# Altium integrated library TI Power Management Lighting and Display.IntLib: 745 symbols (part 38 of 48)
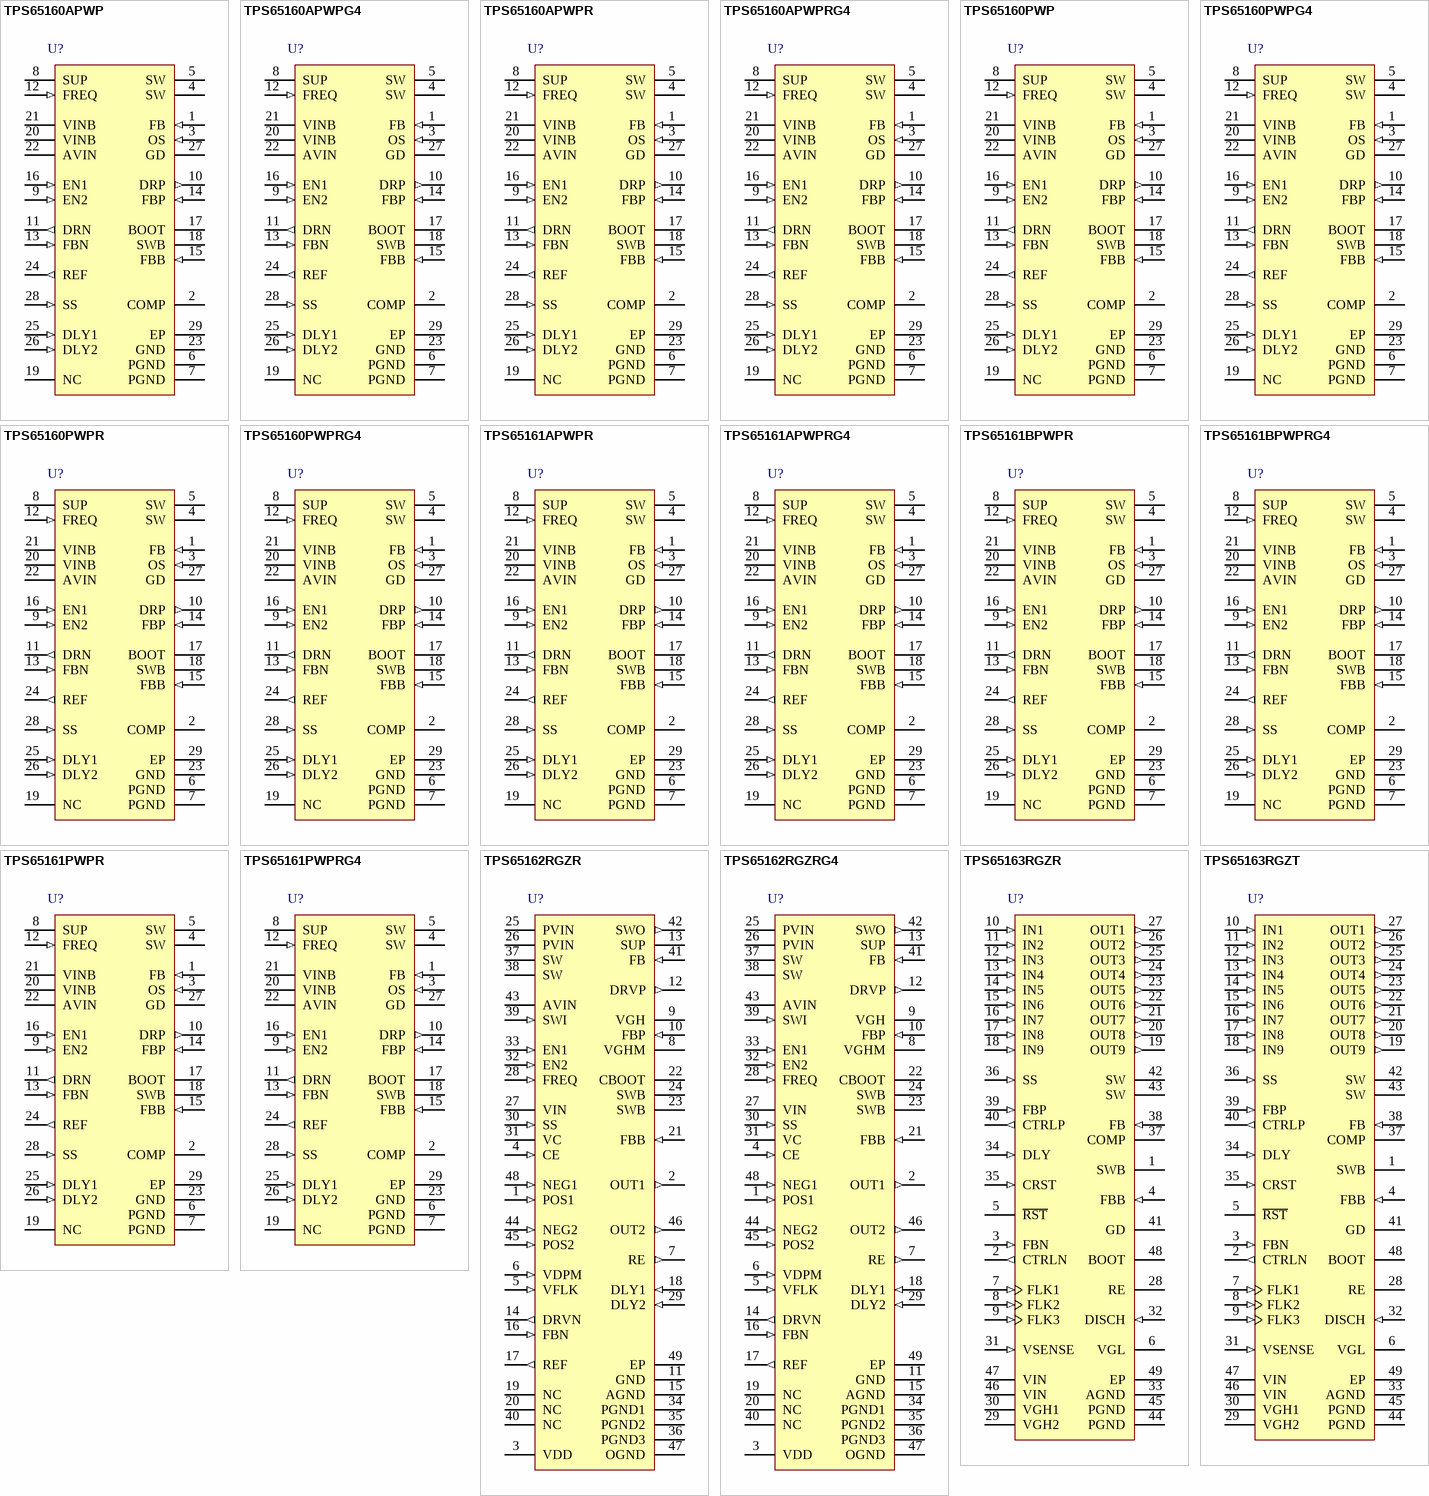
[diagram p68: symbols TPS65160APWP to TPS65163RGZT]

## TPS65160APWPG4
designator U?
4-Channel LCD Bias, 9.2 to 14 V, -40 to 85 degC, 28-pin SOP (PWP28), Green (RoHS & no Sb/Br); Manufacturer: Texas Instruments; PartNumber: TPS65160APWPG4; Rating: Catalog; SubFamily: LCD/OLED Display Bias Solutions; Switching Frequency(Typ)(kHz): 750, 500; Topology: Buck, Boost, Inverting Buck/Boost; Vin(Max)(V): 14; Vin(Min)(V): 9.2; DatasheetVersion: SLVS566B; PackageVersion: 4073225-6/I; PackageReference: PWP28-5720X1950TP; PackageDescription: 28-Pin Plastic Small Outline, Body 4.4 x 9.7 mm, Pitch 0.65 mm; Supplier 1: Digi-Key; Supplier Part Number 1: TPS65160APWPG4-ND; Supplier 2: Mouser; Supplier Part Number 2: 595-TPS65160APWPG4; Eco-Plan: Green (RoHS & no Sb/Br); Mounting Technology: Surface Mount; Code_JEDEC: MO-153; ComponentLink1Description: Manufacturer URL; ComponentLink1URL: http://www.ti.com/; ComponentLink2Description: Datasheet; ComponentLink2URL: http://www.ti.com/general/docs/lit/getliterature.tsp?genericPartNumber=TPS65160A&fileType=pdf; ComponentLink3Description: Package Specification; ComponentLink3URL: http://www.ti.com/litv/pdf/mpds373
footprint TI-PWP28-5720X1950TP_N (SOP, 28-Leads, Body 9.7x4.4mm, Pitch 0.65mm, Thermal Pad 5.72 x 1.95mm, IPC Medium Density)
footprint TI-PWP28-5720X1950TP_L (SOP, 28-Leads, Body 9.7x4.4mm, Pitch 0.65mm, Thermal Pad 5.72 x 1.95mm, IPC High Density)
footprint TI-PWP28-5720X1950TP_M (SOP, 28-Leads, Body 9.7x4.4mm, Pitch 0.65mm, Thermal Pad 5.72 x 1.95mm, IPC Low Density)
pins: 1 FB (in) "Feedback of the main boost converter generating Vsource (VS).", 2 COMP "This is the compensation pin for the main boost converter. A small capacitor and, if required, a resistor is connected to this pin.", 3 OS (in) "Output sense pin. The OS pin is connected to the internal rectifier switch and overvoltage protection comparator. This pin needs to be connected to the output of the boost converter and cannot be connected to any other (See Datasheet)", 4 SW (power) "Switch pin of the boost converter generating Vsource (VS).", 5 SW (power) "Switch pin of the boost converter generating Vsource (VS).", 6 PGND (power) "Power ground", 7 PGND (power) "Power ground", 8 SUP (power) "This is the supply pin of the positive charge pump driver and can be connected to the input supply VIN or the output of the main boost converter VS. This depends mainly on the desired output voltage VGH and numbers of charge (See Datasheet)", 9 EN2 (in) "The boost converter starts only with EN1 = high, after the step-down converter is enabled. EN2 is the enable pin of the boost converter and positive charge pump. When this pin is pulled high, the boost converter and positive (See Datasheet)", 10 DRP (out) "Drive pin of the positive charge pump.", 11 DRN (out) "Drive pin of the negative charge pump.", 12 FREQ (in) "Frequency adjust pin. This pin allows setting the switching frequency with a logic level to 500 kHz = low and 750 kHz = high.", 13 FBN (in) "Feedback pin of negative charge pump.", 14 FBP (in) "Feedback pin of positive charge pump.", 15 FBB (in) "Feedback pin of the buck converter", 16 EN1 (in) "This is the enable pin of the buck converter and negative charge pump. When this pin is pulled high, the buck converter starts up, and after a delay time set by DLY1, the negative charge pump comes up. This pin must be (See Datasheet)", 17 BOOT "N-channel MOSFET gate drive voltage for the buck converter. Connect a capacitor from the switch node SWB to this pin.", 18 SWB (power) "Switch pin of the buck converter", 19 NC "Not connected", 20 VINB (power) "Power input voltage pin for the buck converter.", 21 VINB (power) "Power input voltage pin for the buck converter.", 22 AVIN (power) "Analog input voltage of the device. This is the input for the analog circuits of the device and should be bypassed with a 1-uF ceramic capacitor for good filtering.", 23 GND (power) "Analog ground", 24 REF (out) "Internal reference output typically 1.213 V. A 220-nF capacitor needs to be connected to this pin.", 25 DLY1 (in) "Connecting a capacitor from this pin to GND allows the setting of the delay time between V(LOGIC) (step-down converter output high) to VGL during start-up.", 26 DLY2 (in) "Connecting a capacitor from this pin to GND allows the setting of the delay time between V(LOGIC) (step-down converter output high) to VS boost converter and positive charge-pump VGH during start-up.", 27 GD (hiz) "This is the gate drive pin which can be used to control an external MOSFET switch to provide input to output isolation of VS or VGH. See the circuit diagrams at the end of this data sheet. GD is an open-drain output and is (See Datasheet)", 28 SS (in) "This pin allows setting the soft-start time for the main boost converter VS. Typically a 22-nF capacitor needs to be connected to this pin to set the soft-start time.", 29 EP (power) "The thermally enhanced PowerPAD is connected to PGND."

## TPS65160APWPR
designator U?
4-Channel LCD Bias, 9.2 to 14 V, -40 to 85 degC, 28-pin SOP (PWP28), Green (RoHS & no Sb/Br); Manufacturer: Texas Instruments; PartNumber: TPS65160APWPR; Rating: Catalog; SubFamily: LCD/OLED Display Bias Solutions; Switching Frequency(Typ)(kHz): 750, 500; Topology: Buck, Boost, Inverting Buck/Boost; Vin(Max)(V): 14; Vin(Min)(V): 9.2; DatasheetVersion: SLVS566B; PackageVersion: 4073225-6/I; PackageReference: PWP28-5720X1950TP; PackageDescription: 28-Pin Plastic Small Outline, Body 4.4 x 9.7 mm, Pitch 0.65 mm; Supplier 1: Digi-Key; Supplier Part Number 1: 296-18305-2-ND; Supplier 2: Digi-Key; Supplier Part Number 2: 296-18305-1-ND; Supplier 3: Digi-Key; Supplier Part Number 3: 296-18305-6-ND; Supplier 4: Mouser; Supplier Part Number 4: 595-TPS65160APWPR; Eco-Plan: Green (RoHS & no Sb/Br); Mounting Technology: Surface Mount; Code_JEDEC: MO-153; ComponentLink1Description: Manufacturer URL; ComponentLink1URL: http://www.ti.com/; ComponentLink2Description: Datasheet; ComponentLink2URL: http://www.ti.com/general/docs/lit/getliterature.tsp?genericPartNumber=TPS65160A&fileType=pdf; ComponentLink3Description: Package Specification; ComponentLink3URL: http://www.ti.com/litv/pdf/mpds373
footprint TI-PWP28-5720X1950TP_N (SOP, 28-Leads, Body 9.7x4.4mm, Pitch 0.65mm, Thermal Pad 5.72 x 1.95mm, IPC Medium Density)
footprint TI-PWP28-5720X1950TP_L (SOP, 28-Leads, Body 9.7x4.4mm, Pitch 0.65mm, Thermal Pad 5.72 x 1.95mm, IPC High Density)
footprint TI-PWP28-5720X1950TP_M (SOP, 28-Leads, Body 9.7x4.4mm, Pitch 0.65mm, Thermal Pad 5.72 x 1.95mm, IPC Low Density)
pins: 1 FB (in) "Feedback of the main boost converter generating Vsource (VS).", 2 COMP "This is the compensation pin for the main boost converter. A small capacitor and, if required, a resistor is connected to this pin.", 3 OS (in) "Output sense pin. The OS pin is connected to the internal rectifier switch and overvoltage protection comparator. This pin needs to be connected to the output of the boost converter and cannot be connected to any other (See Datasheet)", 4 SW (power) "Switch pin of the boost converter generating Vsource (VS).", 5 SW (power) "Switch pin of the boost converter generating Vsource (VS).", 6 PGND (power) "Power ground", 7 PGND (power) "Power ground", 8 SUP (power) "This is the supply pin of the positive charge pump driver and can be connected to the input supply VIN or the output of the main boost converter VS. This depends mainly on the desired output voltage VGH and numbers of charge (See Datasheet)", 9 EN2 (in) "The boost converter starts only with EN1 = high, after the step-down converter is enabled. EN2 is the enable pin of the boost converter and positive charge pump. When this pin is pulled high, the boost converter and positive (See Datasheet)", 10 DRP (out) "Drive pin of the positive charge pump.", 11 DRN (out) "Drive pin of the negative charge pump.", 12 FREQ (in) "Frequency adjust pin. This pin allows setting the switching frequency with a logic level to 500 kHz = low and 750 kHz = high.", 13 FBN (in) "Feedback pin of negative charge pump.", 14 FBP (in) "Feedback pin of positive charge pump.", 15 FBB (in) "Feedback pin of the buck converter", 16 EN1 (in) "This is the enable pin of the buck converter and negative charge pump. When this pin is pulled high, the buck converter starts up, and after a delay time set by DLY1, the negative charge pump comes up. This pin must be (See Datasheet)", 17 BOOT "N-channel MOSFET gate drive voltage for the buck converter. Connect a capacitor from the switch node SWB to this pin.", 18 SWB (power) "Switch pin of the buck converter", 19 NC "Not connected", 20 VINB (power) "Power input voltage pin for the buck converter.", 21 VINB (power) "Power input voltage pin for the buck converter.", 22 AVIN (power) "Analog input voltage of the device. This is the input for the analog circuits of the device and should be bypassed with a 1-uF ceramic capacitor for good filtering.", 23 GND (power) "Analog ground", 24 REF (out) "Internal reference output typically 1.213 V. A 220-nF capacitor needs to be connected to this pin.", 25 DLY1 (in) "Connecting a capacitor from this pin to GND allows the setting of the delay time between V(LOGIC) (step-down converter output high) to VGL during start-up.", 26 DLY2 (in) "Connecting a capacitor from this pin to GND allows the setting of the delay time between V(LOGIC) (step-down converter output high) to VS boost converter and positive charge-pump VGH during start-up.", 27 GD (hiz) "This is the gate drive pin which can be used to control an external MOSFET switch to provide input to output isolation of VS or VGH. See the circuit diagrams at the end of this data sheet. GD is an open-drain output and is (See Datasheet)", 28 SS (in) "This pin allows setting the soft-start time for the main boost converter VS. Typically a 22-nF capacitor needs to be connected to this pin to set the soft-start time.", 29 EP (power) "The thermally enhanced PowerPAD is connected to PGND."

## TPS65160APWPRG4
designator U?
4-Channel LCD Bias, 9.2 to 14 V, -40 to 85 degC, 28-pin SOP (PWP28), Green (RoHS & no Sb/Br); Manufacturer: Texas Instruments; PartNumber: TPS65160APWPRG4; Rating: Catalog; SubFamily: LCD/OLED Display Bias Solutions; Switching Frequency(Typ)(kHz): 750, 500; Topology: Buck, Boost, Inverting Buck/Boost; Vin(Max)(V): 14; Vin(Min)(V): 9.2; DatasheetVersion: SLVS566B; PackageVersion: 4073225-6/I; PackageReference: PWP28-5720X1950TP; PackageDescription: 28-Pin Plastic Small Outline, Body 4.4 x 9.7 mm, Pitch 0.65 mm; Supplier 1: Digi-Key; Supplier Part Number 1: TPS65160APWPRG4-ND; Supplier 2: Mouser; Supplier Part Number 2: 595-TPS65160APWPRG4; Eco-Plan: Green (RoHS & no Sb/Br); Mounting Technology: Surface Mount; Code_JEDEC: MO-153; ComponentLink1Description: Manufacturer URL; ComponentLink1URL: http://www.ti.com/; ComponentLink2Description: Datasheet; ComponentLink2URL: http://www.ti.com/general/docs/lit/getliterature.tsp?genericPartNumber=TPS65160A&fileType=pdf; ComponentLink3Description: Package Specification; ComponentLink3URL: http://www.ti.com/litv/pdf/mpds373
footprint TI-PWP28-5720X1950TP_N (SOP, 28-Leads, Body 9.7x4.4mm, Pitch 0.65mm, Thermal Pad 5.72 x 1.95mm, IPC Medium Density)
footprint TI-PWP28-5720X1950TP_L (SOP, 28-Leads, Body 9.7x4.4mm, Pitch 0.65mm, Thermal Pad 5.72 x 1.95mm, IPC High Density)
footprint TI-PWP28-5720X1950TP_M (SOP, 28-Leads, Body 9.7x4.4mm, Pitch 0.65mm, Thermal Pad 5.72 x 1.95mm, IPC Low Density)
pins: 1 FB (in) "Feedback of the main boost converter generating Vsource (VS).", 2 COMP "This is the compensation pin for the main boost converter. A small capacitor and, if required, a resistor is connected to this pin.", 3 OS (in) "Output sense pin. The OS pin is connected to the internal rectifier switch and overvoltage protection comparator. This pin needs to be connected to the output of the boost converter and cannot be connected to any other (See Datasheet)", 4 SW (power) "Switch pin of the boost converter generating Vsource (VS).", 5 SW (power) "Switch pin of the boost converter generating Vsource (VS).", 6 PGND (power) "Power ground", 7 PGND (power) "Power ground", 8 SUP (power) "This is the supply pin of the positive charge pump driver and can be connected to the input supply VIN or the output of the main boost converter VS. This depends mainly on the desired output voltage VGH and numbers of charge (See Datasheet)", 9 EN2 (in) "The boost converter starts only with EN1 = high, after the step-down converter is enabled. EN2 is the enable pin of the boost converter and positive charge pump. When this pin is pulled high, the boost converter and positive (See Datasheet)", 10 DRP (out) "Drive pin of the positive charge pump.", 11 DRN (out) "Drive pin of the negative charge pump.", 12 FREQ (in) "Frequency adjust pin. This pin allows setting the switching frequency with a logic level to 500 kHz = low and 750 kHz = high.", 13 FBN (in) "Feedback pin of negative charge pump.", 14 FBP (in) "Feedback pin of positive charge pump.", 15 FBB (in) "Feedback pin of the buck converter", 16 EN1 (in) "This is the enable pin of the buck converter and negative charge pump. When this pin is pulled high, the buck converter starts up, and after a delay time set by DLY1, the negative charge pump comes up. This pin must be (See Datasheet)", 17 BOOT "N-channel MOSFET gate drive voltage for the buck converter. Connect a capacitor from the switch node SWB to this pin.", 18 SWB (power) "Switch pin of the buck converter", 19 NC "Not connected", 20 VINB (power) "Power input voltage pin for the buck converter.", 21 VINB (power) "Power input voltage pin for the buck converter.", 22 AVIN (power) "Analog input voltage of the device. This is the input for the analog circuits of the device and should be bypassed with a 1-uF ceramic capacitor for good filtering.", 23 GND (power) "Analog ground", 24 REF (out) "Internal reference output typically 1.213 V. A 220-nF capacitor needs to be connected to this pin.", 25 DLY1 (in) "Connecting a capacitor from this pin to GND allows the setting of the delay time between V(LOGIC) (step-down converter output high) to VGL during start-up.", 26 DLY2 (in) "Connecting a capacitor from this pin to GND allows the setting of the delay time between V(LOGIC) (step-down converter output high) to VS boost converter and positive charge-pump VGH during start-up.", 27 GD (hiz) "This is the gate drive pin which can be used to control an external MOSFET switch to provide input to output isolation of VS or VGH. See the circuit diagrams at the end of this data sheet. GD is an open-drain output and is (See Datasheet)", 28 SS (in) "This pin allows setting the soft-start time for the main boost converter VS. Typically a 22-nF capacitor needs to be connected to this pin to set the soft-start time.", 29 EP (power) "The thermally enhanced PowerPAD is connected to PGND."

## TPS65160PWP
designator U?
4-Channel LCD Bias, 8 to 14 V, -40 to 85 degC, 28-pin SOP (PWP28), Green (RoHS & no Sb/Br); Manufacturer: Texas Instruments; PartNumber: TPS65160PWP; Rating: Catalog; SubFamily: LCD/OLED Display Bias Solutions; Switching Frequency(Typ)(kHz): 750, 500; Topology: Buck, Boost, Inverting Buck/Boost; Vin(Max)(V): 14; Vin(Min)(V): 8; DatasheetVersion: SLVS566B; PackageVersion: 4073225-6/I; PackageReference: PWP28-5720X1950TP; PackageDescription: 28-Pin Plastic Small Outline, Body 4.4 x 9.7 mm, Pitch 0.65 mm; Supplier 1: Digi-Key; Supplier Part Number 1: 296-34638-5-ND; Supplier 2: Newark; Supplier Part Number 2: 28K5738; Supplier 3: Mouser; Supplier Part Number 3: 595-TPS65160PWP; Eco-Plan: Green (RoHS & no Sb/Br); Mounting Technology: Surface Mount; Code_JEDEC: MO-153; ComponentLink1Description: Manufacturer URL; ComponentLink1URL: http://www.ti.com/; ComponentLink2Description: Datasheet; ComponentLink2URL: http://www.ti.com/general/docs/lit/getliterature.tsp?genericPartNumber=TPS65160&fileType=pdf; ComponentLink3Description: Package Specification; ComponentLink3URL: http://www.ti.com/litv/pdf/mpds373
footprint TI-PWP28-5720X1950TP_N (SOP, 28-Leads, Body 9.7x4.4mm, Pitch 0.65mm, Thermal Pad 5.72 x 1.95mm, IPC Medium Density)
footprint TI-PWP28-5720X1950TP_L (SOP, 28-Leads, Body 9.7x4.4mm, Pitch 0.65mm, Thermal Pad 5.72 x 1.95mm, IPC High Density)
footprint TI-PWP28-5720X1950TP_M (SOP, 28-Leads, Body 9.7x4.4mm, Pitch 0.65mm, Thermal Pad 5.72 x 1.95mm, IPC Low Density)
pins: 1 FB (in) "Feedback of the main boost converter generating Vsource (VS).", 2 COMP "This is the compensation pin for the main boost converter. A small capacitor and, if required, a resistor is connected to this pin.", 3 OS (in) "Output sense pin. The OS pin is connected to the internal rectifier switch and overvoltage protection comparator. This pin needs to be connected to the output of the boost converter and cannot be connected to any other (See Datasheet)", 4 SW (power) "Switch pin of the boost converter generating Vsource (VS).", 5 SW (power) "Switch pin of the boost converter generating Vsource (VS).", 6 PGND (power) "Power ground", 7 PGND (power) "Power ground", 8 SUP (power) "This is the supply pin of the positive charge pump driver and can be connected to the input supply VIN or the output of the main boost converter VS. This depends mainly on the desired output voltage VGH and numbers of charge (See Datasheet)", 9 EN2 (in) "The boost converter starts only with EN1 = high, after the step-down converter is enabled. EN2 is the enable pin of the boost converter and positive charge pump. When this pin is pulled high, the boost converter and positive (See Datasheet)", 10 DRP (out) "Drive pin of the positive charge pump.", 11 DRN (out) "Drive pin of the negative charge pump.", 12 FREQ (in) "Frequency adjust pin. This pin allows setting the switching frequency with a logic level to 500 kHz = low and 750 kHz = high.", 13 FBN (in) "Feedback pin of negative charge pump.", 14 FBP (in) "Feedback pin of positive charge pump.", 15 FBB (in) "Feedback pin of the buck converter", 16 EN1 (in) "This is the enable pin of the buck converter and negative charge pump. When this pin is pulled high, the buck converter starts up, and after a delay time set by DLY1, the negative charge pump comes up. This pin must be (See Datasheet)", 17 BOOT "N-channel MOSFET gate drive voltage for the buck converter. Connect a capacitor from the switch node SWB to this pin.", 18 SWB (power) "Switch pin of the buck converter", 19 NC "Not connected", 20 VINB (power) "Power input voltage pin for the buck converter.", 21 VINB (power) "Power input voltage pin for the buck converter.", 22 AVIN (power) "Analog input voltage of the device. This is the input for the analog circuits of the device and should be bypassed with a 1-uF ceramic capacitor for good filtering.", 23 GND (power) "Analog ground", 24 REF (out) "Internal reference output typically 1.213 V. A 220-nF capacitor needs to be connected to this pin.", 25 DLY1 (in) "Connecting a capacitor from this pin to GND allows the setting of the delay time between V(LOGIC) (step-down converter output high) to VGL during start-up.", 26 DLY2 (in) "Connecting a capacitor from this pin to GND allows the setting of the delay time between V(LOGIC) (step-down converter output high) to VS boost converter and positive charge-pump VGH during start-up.", 27 GD (hiz) "This is the gate drive pin which can be used to control an external MOSFET switch to provide input to output isolation of VS or VGH. See the circuit diagrams at the end of this data sheet. GD is an open-drain output and is (See Datasheet)", 28 SS (in) "This pin allows setting the soft-start time for the main boost converter VS. Typically a 22-nF capacitor needs to be connected to this pin to set the soft-start time.", 29 EP (power) "The thermally enhanced PowerPAD is connected to PGND."

## TPS65160PWPG4
designator U?
4-Channel LCD Bias, 8 to 14 V, -40 to 85 degC, 28-pin SOP (PWP28), Green (RoHS & no Sb/Br); Manufacturer: Texas Instruments; PartNumber: TPS65160PWPG4; Rating: Catalog; SubFamily: LCD/OLED Display Bias Solutions; Switching Frequency(Typ)(kHz): 750, 500; Topology: Buck, Boost, Inverting Buck/Boost; Vin(Max)(V): 14; Vin(Min)(V): 8; DatasheetVersion: SLVS566B; PackageVersion: 4073225-6/I; PackageReference: PWP28-5720X1950TP; PackageDescription: 28-Pin Plastic Small Outline, Body 4.4 x 9.7 mm, Pitch 0.65 mm; Supplier 1: Digi-Key; Supplier Part Number 1: TPS65160PWPG4-ND; Supplier 2: Newark; Supplier Part Number 2: 33K7648; Supplier 3: Mouser; Supplier Part Number 3: 595-TPS65160PWPG4; Eco-Plan: Green (RoHS & no Sb/Br); Mounting Technology: Surface Mount; Code_JEDEC: MO-153; ComponentLink1Description: Manufacturer URL; ComponentLink1URL: http://www.ti.com/; ComponentLink2Description: Datasheet; ComponentLink2URL: http://www.ti.com/general/docs/lit/getliterature.tsp?genericPartNumber=TPS65160&fileType=pdf; ComponentLink3Description: Package Specification; ComponentLink3URL: http://www.ti.com/litv/pdf/mpds373
footprint TI-PWP28-5720X1950TP_N (SOP, 28-Leads, Body 9.7x4.4mm, Pitch 0.65mm, Thermal Pad 5.72 x 1.95mm, IPC Medium Density)
footprint TI-PWP28-5720X1950TP_L (SOP, 28-Leads, Body 9.7x4.4mm, Pitch 0.65mm, Thermal Pad 5.72 x 1.95mm, IPC High Density)
footprint TI-PWP28-5720X1950TP_M (SOP, 28-Leads, Body 9.7x4.4mm, Pitch 0.65mm, Thermal Pad 5.72 x 1.95mm, IPC Low Density)
pins: 1 FB (in) "Feedback of the main boost converter generating Vsource (VS).", 2 COMP "This is the compensation pin for the main boost converter. A small capacitor and, if required, a resistor is connected to this pin.", 3 OS (in) "Output sense pin. The OS pin is connected to the internal rectifier switch and overvoltage protection comparator. This pin needs to be connected to the output of the boost converter and cannot be connected to any other (See Datasheet)", 4 SW (power) "Switch pin of the boost converter generating Vsource (VS).", 5 SW (power) "Switch pin of the boost converter generating Vsource (VS).", 6 PGND (power) "Power ground", 7 PGND (power) "Power ground", 8 SUP (power) "This is the supply pin of the positive charge pump driver and can be connected to the input supply VIN or the output of the main boost converter VS. This depends mainly on the desired output voltage VGH and numbers of charge (See Datasheet)", 9 EN2 (in) "The boost converter starts only with EN1 = high, after the step-down converter is enabled. EN2 is the enable pin of the boost converter and positive charge pump. When this pin is pulled high, the boost converter and positive (See Datasheet)", 10 DRP (out) "Drive pin of the positive charge pump.", 11 DRN (out) "Drive pin of the negative charge pump.", 12 FREQ (in) "Frequency adjust pin. This pin allows setting the switching frequency with a logic level to 500 kHz = low and 750 kHz = high.", 13 FBN (in) "Feedback pin of negative charge pump.", 14 FBP (in) "Feedback pin of positive charge pump.", 15 FBB (in) "Feedback pin of the buck converter", 16 EN1 (in) "This is the enable pin of the buck converter and negative charge pump. When this pin is pulled high, the buck converter starts up, and after a delay time set by DLY1, the negative charge pump comes up. This pin must be (See Datasheet)", 17 BOOT "N-channel MOSFET gate drive voltage for the buck converter. Connect a capacitor from the switch node SWB to this pin.", 18 SWB (power) "Switch pin of the buck converter", 19 NC "Not connected", 20 VINB (power) "Power input voltage pin for the buck converter.", 21 VINB (power) "Power input voltage pin for the buck converter.", 22 AVIN (power) "Analog input voltage of the device. This is the input for the analog circuits of the device and should be bypassed with a 1-uF ceramic capacitor for good filtering.", 23 GND (power) "Analog ground", 24 REF (out) "Internal reference output typically 1.213 V. A 220-nF capacitor needs to be connected to this pin.", 25 DLY1 (in) "Connecting a capacitor from this pin to GND allows the setting of the delay time between V(LOGIC) (step-down converter output high) to VGL during start-up.", 26 DLY2 (in) "Connecting a capacitor from this pin to GND allows the setting of the delay time between V(LOGIC) (step-down converter output high) to VS boost converter and positive charge-pump VGH during start-up.", 27 GD (hiz) "This is the gate drive pin which can be used to control an external MOSFET switch to provide input to output isolation of VS or VGH. See the circuit diagrams at the end of this data sheet. GD is an open-drain output and is (See Datasheet)", 28 SS (in) "This pin allows setting the soft-start time for the main boost converter VS. Typically a 22-nF capacitor needs to be connected to this pin to set the soft-start time.", 29 EP (power) "The thermally enhanced PowerPAD is connected to PGND."

## TPS65160PWPR
designator U?
4-Channel LCD Bias, 8 to 14 V, -40 to 85 degC, 28-pin SOP (PWP28), Green (RoHS & no Sb/Br); Manufacturer: Texas Instruments; PartNumber: TPS65160PWPR; Rating: Catalog; SubFamily: LCD/OLED Display Bias Solutions; Switching Frequency(Typ)(kHz): 750, 500; Topology: Buck, Boost, Inverting Buck/Boost; Vin(Max)(V): 14; Vin(Min)(V): 8; DatasheetVersion: SLVS566B; PackageVersion: 4073225-6/I; PackageReference: PWP28-5720X1950TP; PackageDescription: 28-Pin Plastic Small Outline, Body 4.4 x 9.7 mm, Pitch 0.65 mm; Supplier 1: Digi-Key; Supplier Part Number 1: 296-17905-2-ND; Supplier 2: Digi-Key; Supplier Part Number 2: 296-17905-1-ND; Supplier 3: Digi-Key; Supplier Part Number 3: 296-17905-6-ND; Supplier 4: Mouser; Supplier Part Number 4: 595-TPS65160PWPR; Eco-Plan: Green (RoHS & no Sb/Br); Mounting Technology: Surface Mount; Code_JEDEC: MO-153; ComponentLink1Description: Manufacturer URL; ComponentLink1URL: http://www.ti.com/; ComponentLink2Description: Datasheet; ComponentLink2URL: http://www.ti.com/general/docs/lit/getliterature.tsp?genericPartNumber=TPS65160&fileType=pdf; ComponentLink3Description: Package Specification; ComponentLink3URL: http://www.ti.com/litv/pdf/mpds373
footprint TI-PWP28-5720X1950TP_N (SOP, 28-Leads, Body 9.7x4.4mm, Pitch 0.65mm, Thermal Pad 5.72 x 1.95mm, IPC Medium Density)
footprint TI-PWP28-5720X1950TP_L (SOP, 28-Leads, Body 9.7x4.4mm, Pitch 0.65mm, Thermal Pad 5.72 x 1.95mm, IPC High Density)
footprint TI-PWP28-5720X1950TP_M (SOP, 28-Leads, Body 9.7x4.4mm, Pitch 0.65mm, Thermal Pad 5.72 x 1.95mm, IPC Low Density)
pins: 1 FB (in) "Feedback of the main boost converter generating Vsource (VS).", 2 COMP "This is the compensation pin for the main boost converter. A small capacitor and, if required, a resistor is connected to this pin.", 3 OS (in) "Output sense pin. The OS pin is connected to the internal rectifier switch and overvoltage protection comparator. This pin needs to be connected to the output of the boost converter and cannot be connected to any other (See Datasheet)", 4 SW (power) "Switch pin of the boost converter generating Vsource (VS).", 5 SW (power) "Switch pin of the boost converter generating Vsource (VS).", 6 PGND (power) "Power ground", 7 PGND (power) "Power ground", 8 SUP (power) "This is the supply pin of the positive charge pump driver and can be connected to the input supply VIN or the output of the main boost converter VS. This depends mainly on the desired output voltage VGH and numbers of charge (See Datasheet)", 9 EN2 (in) "The boost converter starts only with EN1 = high, after the step-down converter is enabled. EN2 is the enable pin of the boost converter and positive charge pump. When this pin is pulled high, the boost converter and positive (See Datasheet)", 10 DRP (out) "Drive pin of the positive charge pump.", 11 DRN (out) "Drive pin of the negative charge pump.", 12 FREQ (in) "Frequency adjust pin. This pin allows setting the switching frequency with a logic level to 500 kHz = low and 750 kHz = high.", 13 FBN (in) "Feedback pin of negative charge pump.", 14 FBP (in) "Feedback pin of positive charge pump.", 15 FBB (in) "Feedback pin of the buck converter", 16 EN1 (in) "This is the enable pin of the buck converter and negative charge pump. When this pin is pulled high, the buck converter starts up, and after a delay time set by DLY1, the negative charge pump comes up. This pin must be (See Datasheet)", 17 BOOT "N-channel MOSFET gate drive voltage for the buck converter. Connect a capacitor from the switch node SWB to this pin.", 18 SWB (power) "Switch pin of the buck converter", 19 NC "Not connected", 20 VINB (power) "Power input voltage pin for the buck converter.", 21 VINB (power) "Power input voltage pin for the buck converter.", 22 AVIN (power) "Analog input voltage of the device. This is the input for the analog circuits of the device and should be bypassed with a 1-uF ceramic capacitor for good filtering.", 23 GND (power) "Analog ground", 24 REF (out) "Internal reference output typically 1.213 V. A 220-nF capacitor needs to be connected to this pin.", 25 DLY1 (in) "Connecting a capacitor from this pin to GND allows the setting of the delay time between V(LOGIC) (step-down converter output high) to VGL during start-up.", 26 DLY2 (in) "Connecting a capacitor from this pin to GND allows the setting of the delay time between V(LOGIC) (step-down converter output high) to VS boost converter and positive charge-pump VGH during start-up.", 27 GD (hiz) "This is the gate drive pin which can be used to control an external MOSFET switch to provide input to output isolation of VS or VGH. See the circuit diagrams at the end of this data sheet. GD is an open-drain output and is (See Datasheet)", 28 SS (in) "This pin allows setting the soft-start time for the main boost converter VS. Typically a 22-nF capacitor needs to be connected to this pin to set the soft-start time.", 29 EP (power) "The thermally enhanced PowerPAD is connected to PGND."

## TPS65160PWPRG4
designator U?
4-Channel LCD Bias, 8 to 14 V, -40 to 85 degC, 28-pin SOP (PWP28), Green (RoHS & no Sb/Br); Manufacturer: Texas Instruments; PartNumber: TPS65160PWPRG4; Rating: Catalog; SubFamily: LCD/OLED Display Bias Solutions; Switching Frequency(Typ)(kHz): 750, 500; Topology: Buck, Boost, Inverting Buck/Boost; Vin(Max)(V): 14; Vin(Min)(V): 8; DatasheetVersion: SLVS566B; PackageVersion: 4073225-6/I; PackageReference: PWP28-5720X1950TP; PackageDescription: 28-Pin Plastic Small Outline, Body 4.4 x 9.7 mm, Pitch 0.65 mm; Supplier 1: Digi-Key; Supplier Part Number 1: TPS65160PWPRG4-ND; Supplier 2: Newark; Supplier Part Number 2: 33K7649; Supplier 3: Mouser; Supplier Part Number 3: 595-TPS65160PWPRG4; Eco-Plan: Green (RoHS & no Sb/Br); Mounting Technology: Surface Mount; Code_JEDEC: MO-153; ComponentLink1Description: Manufacturer URL; ComponentLink1URL: http://www.ti.com/; ComponentLink2Description: Datasheet; ComponentLink2URL: http://www.ti.com/general/docs/lit/getliterature.tsp?genericPartNumber=TPS65160&fileType=pdf; ComponentLink3Description: Package Specification; ComponentLink3URL: http://www.ti.com/litv/pdf/mpds373
footprint TI-PWP28-5720X1950TP_N (SOP, 28-Leads, Body 9.7x4.4mm, Pitch 0.65mm, Thermal Pad 5.72 x 1.95mm, IPC Medium Density)
footprint TI-PWP28-5720X1950TP_L (SOP, 28-Leads, Body 9.7x4.4mm, Pitch 0.65mm, Thermal Pad 5.72 x 1.95mm, IPC High Density)
footprint TI-PWP28-5720X1950TP_M (SOP, 28-Leads, Body 9.7x4.4mm, Pitch 0.65mm, Thermal Pad 5.72 x 1.95mm, IPC Low Density)
pins: 1 FB (in) "Feedback of the main boost converter generating Vsource (VS).", 2 COMP "This is the compensation pin for the main boost converter. A small capacitor and, if required, a resistor is connected to this pin.", 3 OS (in) "Output sense pin. The OS pin is connected to the internal rectifier switch and overvoltage protection comparator. This pin needs to be connected to the output of the boost converter and cannot be connected to any other (See Datasheet)", 4 SW (power) "Switch pin of the boost converter generating Vsource (VS).", 5 SW (power) "Switch pin of the boost converter generating Vsource (VS).", 6 PGND (power) "Power ground", 7 PGND (power) "Power ground", 8 SUP (power) "This is the supply pin of the positive charge pump driver and can be connected to the input supply VIN or the output of the main boost converter VS. This depends mainly on the desired output voltage VGH and numbers of charge (See Datasheet)", 9 EN2 (in) "The boost converter starts only with EN1 = high, after the step-down converter is enabled. EN2 is the enable pin of the boost converter and positive charge pump. When this pin is pulled high, the boost converter and positive (See Datasheet)", 10 DRP (out) "Drive pin of the positive charge pump.", 11 DRN (out) "Drive pin of the negative charge pump.", 12 FREQ (in) "Frequency adjust pin. This pin allows setting the switching frequency with a logic level to 500 kHz = low and 750 kHz = high.", 13 FBN (in) "Feedback pin of negative charge pump.", 14 FBP (in) "Feedback pin of positive charge pump.", 15 FBB (in) "Feedback pin of the buck converter", 16 EN1 (in) "This is the enable pin of the buck converter and negative charge pump. When this pin is pulled high, the buck converter starts up, and after a delay time set by DLY1, the negative charge pump comes up. This pin must be (See Datasheet)", 17 BOOT "N-channel MOSFET gate drive voltage for the buck converter. Connect a capacitor from the switch node SWB to this pin.", 18 SWB (power) "Switch pin of the buck converter", 19 NC "Not connected", 20 VINB (power) "Power input voltage pin for the buck converter.", 21 VINB (power) "Power input voltage pin for the buck converter.", 22 AVIN (power) "Analog input voltage of the device. This is the input for the analog circuits of the device and should be bypassed with a 1-uF ceramic capacitor for good filtering.", 23 GND (power) "Analog ground", 24 REF (out) "Internal reference output typically 1.213 V. A 220-nF capacitor needs to be connected to this pin.", 25 DLY1 (in) "Connecting a capacitor from this pin to GND allows the setting of the delay time between V(LOGIC) (step-down converter output high) to VGL during start-up.", 26 DLY2 (in) "Connecting a capacitor from this pin to GND allows the setting of the delay time between V(LOGIC) (step-down converter output high) to VS boost converter and positive charge-pump VGH during start-up.", 27 GD (hiz) "This is the gate drive pin which can be used to control an external MOSFET switch to provide input to output isolation of VS or VGH. See the circuit diagrams at the end of this data sheet. GD is an open-drain output and is (See Datasheet)", 28 SS (in) "This pin allows setting the soft-start time for the main boost converter VS. Typically a 22-nF capacitor needs to be connected to this pin to set the soft-start time.", 29 EP (power) "The thermally enhanced PowerPAD is connected to PGND."

## TPS65161APWPR
designator U?
4-Channel LCD Bias, 8 to 14.7 V, -40 to 85 degC, 28-pin SOP (PWP28), Green (RoHS & no Sb/Br); Manufacturer: Texas Instruments; PartNumber: TPS65161APWPR; Rating: Catalog; SubFamily: LCD/OLED Display Bias Solutions; Switching Frequency(Typ)(kHz): 750, 500; Topology: Buck, Boost, Inverting Buck/Boost; Vin(Max)(V): 14.7; Vin(Min)(V): 8; DatasheetVersion: SLVS617D; PackageVersion: 4073225-6/I; PackageReference: PWP28-5720X1950TP; PackageDescription: 28-Pin Plastic Small Outline, Body 4.4 x 9.7 mm, Pitch 0.65 mm; Supplier 1: Digi-Key; Supplier Part Number 1: 296-22678-2-ND; Supplier 2: Digi-Key; Supplier Part Number 2: 296-22678-1-ND; Supplier 3: Digi-Key; Supplier Part Number 3: 296-22678-6-ND; Supplier 4: Newark; Supplier Part Number 4: 60M1802; Supplier 5: Mouser; Supplier Part Number 5: 595-TPS65161APWPR; Eco-Plan: Green (RoHS & no Sb/Br); Mounting Technology: Surface Mount; Code_JEDEC: MO-153; ComponentLink1Description: Manufacturer URL; ComponentLink1URL: http://www.ti.com/; ComponentLink2Description: Datasheet; ComponentLink2URL: http://www.ti.com/general/docs/lit/getliterature.tsp?genericPartNumber=TPS65161A&fileType=pdf; ComponentLink3Description: Package Specification; ComponentLink3URL: http://www.ti.com/litv/pdf/mpds373
footprint TI-PWP28-5720X1950TP_N (SOP, 28-Leads, Body 9.7x4.4mm, Pitch 0.65mm, Thermal Pad 5.72 x 1.95mm, IPC Medium Density)
footprint TI-PWP28-5720X1950TP_L (SOP, 28-Leads, Body 9.7x4.4mm, Pitch 0.65mm, Thermal Pad 5.72 x 1.95mm, IPC High Density)
footprint TI-PWP28-5720X1950TP_M (SOP, 28-Leads, Body 9.7x4.4mm, Pitch 0.65mm, Thermal Pad 5.72 x 1.95mm, IPC Low Density)
pins: 1 FB (in) "Feedback of the main boost converter generating Vsource (VS).", 2 COMP "This is the compensation pin for the main boost converter. A small capacitor and, if required, a resistor is connected to this pin.", 3 OS (in) "Output sense pin. The OS pin is connected to the internal rectifier switch and overvoltage protection comparator. This pin needs to be connected to the output of the boost converter and cannot be connected to any other (See Datasheet)", 4 SW (power) "Switch pin of the boost converter generating Vsource (VS).", 5 SW (power) "Switch pin of the boost converter generating Vsource (VS).", 6 PGND (power) "Power ground", 7 PGND (power) "Power ground", 8 SUP (power) "This is the supply pin of the positive charge pump driver and can be connected to the input supply VIN or the output of the main boost converter VS. This depends mainly on the desired output voltage VGH and numbers of charge (See Datasheet)", 9 EN2 (in) "The boost converter starts only with EN1 = high, after the step-down converter is enabled. EN2 is the enable pin of the boost converter and positive charge pump. When this pin is pulled high, the boost converter and positive (See Datasheet)", 10 DRP (out) "Drive pin of the positive charge pump.", 11 DRN (out) "Drive pin of the negative charge pump.", 12 FREQ (in) "Frequency adjust pin. This pin allows setting the switching frequency with a logic level to 500 kHz = low and 750 kHz = high.", 13 FBN (in) "Feedback pin of negative charge pump.", 14 FBP (in) "Feedback pin of positive charge pump.", 15 FBB (in) "Feedback pin of the buck converter", 16 EN1 (in) "This is the enable pin of the buck converter and negative charge pump. When this pin is pulled high, the buck converter starts up, and after a delay time set by DLY1, the negative charge pump comes up. This pin must be (See Datasheet)", 17 BOOT "N-channel MOSFET gate drive voltage for the buck converter. Connect a capacitor from the switch node SWB to this pin.", 18 SWB (power) "Switch pin of the buck converter", 19 NC "Not connected", 20 VINB (power) "Power input voltage pin for the buck converter.", 21 VINB (power) "Power input voltage pin for the buck converter.", 22 AVIN (power) "Analog input voltage of the device. This is the input for the analog circuits of the device and should be bypassed with a 1-uF ceramic capacitor for good filtering.", 23 GND (power) "Analog ground", 24 REF (out) "Internal reference output typically 1.213 V. A 220-nF capacitor needs to be connected to this pin.", 25 DLY1 (in) "Connecting a capacitor from this pin to GND allows the setting of the delay time between V(LOGIC) (step-down converter output high) to VGL during start-up.", 26 DLY2 (in) "Connecting a capacitor from this pin to GND allows the setting of the delay time between V(LOGIC) (step-down converter output high) to VS boost converter and positive charge-pump VGH during start-up.", 27 GD (hiz) "This is the gate drive pin which can be used to control an external MOSFET switch to provide input to output isolation of VS or VGH. See the circuit diagrams at the end of this data sheet. GD is an open-drain output and is (See Datasheet)", 28 SS (in) "This pin allows setting the soft-start time for the main boost converter VS. Typically a 22-nF capacitor needs to be connected to this pin to set the soft-start time.", 29 EP (power) "The thermally enhanced PowerPAD is connected to PGND."

## TPS65161APWPRG4
designator U?
4-Channel LCD Bias, 8 to 14.7 V, -40 to 85 degC, 28-pin SOP (PWP28), Green (RoHS & no Sb/Br); Manufacturer: Texas Instruments; PartNumber: TPS65161APWPRG4; Rating: Catalog; SubFamily: LCD/OLED Display Bias Solutions; Switching Frequency(Typ)(kHz): 750, 500; Topology: Buck, Boost, Inverting Buck/Boost; Vin(Max)(V): 14.7; Vin(Min)(V): 8; DatasheetVersion: SLVS617D; PackageVersion: 4073225-6/I; PackageReference: PWP28-5720X1950TP; PackageDescription: 28-Pin Plastic Small Outline, Body 4.4 x 9.7 mm, Pitch 0.65 mm; Supplier 1: Digi-Key; Supplier Part Number 1: TPS65161APWPRG4-ND; Supplier 2: Newark; Supplier Part Number 2: 65M6348; Supplier 3: Mouser; Supplier Part Number 3: 595-TPS65161APWPRG4; Eco-Plan: Green (RoHS & no Sb/Br); Mounting Technology: Surface Mount; Code_JEDEC: MO-153; ComponentLink1Description: Manufacturer URL; ComponentLink1URL: http://www.ti.com/; ComponentLink2Description: Datasheet; ComponentLink2URL: http://www.ti.com/general/docs/lit/getliterature.tsp?genericPartNumber=TPS65161A&fileType=pdf; ComponentLink3Description: Package Specification; ComponentLink3URL: http://www.ti.com/litv/pdf/mpds373
footprint TI-PWP28-5720X1950TP_N (SOP, 28-Leads, Body 9.7x4.4mm, Pitch 0.65mm, Thermal Pad 5.72 x 1.95mm, IPC Medium Density)
footprint TI-PWP28-5720X1950TP_L (SOP, 28-Leads, Body 9.7x4.4mm, Pitch 0.65mm, Thermal Pad 5.72 x 1.95mm, IPC High Density)
footprint TI-PWP28-5720X1950TP_M (SOP, 28-Leads, Body 9.7x4.4mm, Pitch 0.65mm, Thermal Pad 5.72 x 1.95mm, IPC Low Density)
pins: 1 FB (in) "Feedback of the main boost converter generating Vsource (VS).", 2 COMP "This is the compensation pin for the main boost converter. A small capacitor and, if required, a resistor is connected to this pin.", 3 OS (in) "Output sense pin. The OS pin is connected to the internal rectifier switch and overvoltage protection comparator. This pin needs to be connected to the output of the boost converter and cannot be connected to any other (See Datasheet)", 4 SW (power) "Switch pin of the boost converter generating Vsource (VS).", 5 SW (power) "Switch pin of the boost converter generating Vsource (VS).", 6 PGND (power) "Power ground", 7 PGND (power) "Power ground", 8 SUP (power) "This is the supply pin of the positive charge pump driver and can be connected to the input supply VIN or the output of the main boost converter VS. This depends mainly on the desired output voltage VGH and numbers of charge (See Datasheet)", 9 EN2 (in) "The boost converter starts only with EN1 = high, after the step-down converter is enabled. EN2 is the enable pin of the boost converter and positive charge pump. When this pin is pulled high, the boost converter and positive (See Datasheet)", 10 DRP (out) "Drive pin of the positive charge pump.", 11 DRN (out) "Drive pin of the negative charge pump.", 12 FREQ (in) "Frequency adjust pin. This pin allows setting the switching frequency with a logic level to 500 kHz = low and 750 kHz = high.", 13 FBN (in) "Feedback pin of negative charge pump.", 14 FBP (in) "Feedback pin of positive charge pump.", 15 FBB (in) "Feedback pin of the buck converter", 16 EN1 (in) "This is the enable pin of the buck converter and negative charge pump. When this pin is pulled high, the buck converter starts up, and after a delay time set by DLY1, the negative charge pump comes up. This pin must be (See Datasheet)", 17 BOOT "N-channel MOSFET gate drive voltage for the buck converter. Connect a capacitor from the switch node SWB to this pin.", 18 SWB (power) "Switch pin of the buck converter", 19 NC "Not connected", 20 VINB (power) "Power input voltage pin for the buck converter.", 21 VINB (power) "Power input voltage pin for the buck converter.", 22 AVIN (power) "Analog input voltage of the device. This is the input for the analog circuits of the device and should be bypassed with a 1-uF ceramic capacitor for good filtering.", 23 GND (power) "Analog ground", 24 REF (out) "Internal reference output typically 1.213 V. A 220-nF capacitor needs to be connected to this pin.", 25 DLY1 (in) "Connecting a capacitor from this pin to GND allows the setting of the delay time between V(LOGIC) (step-down converter output high) to VGL during start-up.", 26 DLY2 (in) "Connecting a capacitor from this pin to GND allows the setting of the delay time between V(LOGIC) (step-down converter output high) to VS boost converter and positive charge-pump VGH during start-up.", 27 GD (hiz) "This is the gate drive pin which can be used to control an external MOSFET switch to provide input to output isolation of VS or VGH. See the circuit diagrams at the end of this data sheet. GD is an open-drain output and is (See Datasheet)", 28 SS (in) "This pin allows setting the soft-start time for the main boost converter VS. Typically a 22-nF capacitor needs to be connected to this pin to set the soft-start time.", 29 EP (power) "The thermally enhanced PowerPAD is connected to PGND."

## TPS65161BPWPR
designator U?
4-Channel LCD Bias, 8 to 14.7 V, -40 to 85 degC, 28-pin SOP (PWP28), Green (RoHS & no Sb/Br); Manufacturer: Texas Instruments; PartNumber: TPS65161BPWPR; Rating: Catalog; SubFamily: LCD/OLED Display Bias Solutions; Switching Frequency(Typ)(kHz): 500, 750; Topology: Buck, Boost, Inverting Buck/Boost; Vin(Max)(V): 14.7; Vin(Min)(V): 8; DatasheetVersion: SLVS617D; PackageVersion: 4073225-6/I; PackageReference: PWP28-5720X1950TP; PackageDescription: 28-Pin Plastic Small Outline, Body 4.4 x 9.7 mm, Pitch 0.65 mm; Supplier 1: Digi-Key; Supplier Part Number 1: 296-23845-2-ND; Supplier 2: Digi-Key; Supplier Part Number 2: 296-23845-1-ND; Supplier 3: Digi-Key; Supplier Part Number 3: 296-23845-6-ND; Supplier 4: Mouser; Supplier Part Number 4: 595-TPS65161BPWPR; Eco-Plan: Green (RoHS & no Sb/Br); Mounting Technology: Surface Mount; Code_JEDEC: MO-153; ComponentLink1Description: Manufacturer URL; ComponentLink1URL: http://www.ti.com/; ComponentLink2Description: Datasheet; ComponentLink2URL: http://www.ti.com/general/docs/lit/getliterature.tsp?genericPartNumber=TPS65161B&fileType=pdf; ComponentLink3Description: Package Specification; ComponentLink3URL: http://www.ti.com/litv/pdf/mpds373
footprint TI-PWP28-5720X1950TP_N (SOP, 28-Leads, Body 9.7x4.4mm, Pitch 0.65mm, Thermal Pad 5.72 x 1.95mm, IPC Medium Density)
footprint TI-PWP28-5720X1950TP_L (SOP, 28-Leads, Body 9.7x4.4mm, Pitch 0.65mm, Thermal Pad 5.72 x 1.95mm, IPC High Density)
footprint TI-PWP28-5720X1950TP_M (SOP, 28-Leads, Body 9.7x4.4mm, Pitch 0.65mm, Thermal Pad 5.72 x 1.95mm, IPC Low Density)
pins: 1 FB (in) "Feedback of the main boost converter generating Vsource (VS).", 2 COMP "This is the compensation pin for the main boost converter. A small capacitor and, if required, a resistor is connected to this pin.", 3 OS (in) "Output sense pin. The OS pin is connected to the internal rectifier switch and overvoltage protection comparator. This pin needs to be connected to the output of the boost converter and cannot be connected to any other (See Datasheet)", 4 SW (power) "Switch pin of the boost converter generating Vsource (VS).", 5 SW (power) "Switch pin of the boost converter generating Vsource (VS).", 6 PGND (power) "Power ground", 7 PGND (power) "Power ground", 8 SUP (power) "This is the supply pin of the positive charge pump driver and can be connected to the input supply VIN or the output of the main boost converter VS. This depends mainly on the desired output voltage VGH and numbers of charge (See Datasheet)", 9 EN2 (in) "The boost converter starts only with EN1 = high, after the step-down converter is enabled. EN2 is the enable pin of the boost converter and positive charge pump. When this pin is pulled high, the boost converter and positive (See Datasheet)", 10 DRP (out) "Drive pin of the positive charge pump.", 11 DRN (out) "Drive pin of the negative charge pump.", 12 FREQ (in) "Frequency adjust pin. This pin allows setting the switching frequency with a logic level to 500 kHz = low and 750 kHz = high.", 13 FBN (in) "Feedback pin of negative charge pump.", 14 FBP (in) "Feedback pin of positive charge pump.", 15 FBB (in) "Feedback pin of the buck converter", 16 EN1 (in) "This is the enable pin of the buck converter and negative charge pump. When this pin is pulled high, the buck converter starts up, and after a delay time set by DLY1, the negative charge pump comes up. This pin must be (See Datasheet)", 17 BOOT "N-channel MOSFET gate drive voltage for the buck converter. Connect a capacitor from the switch node SWB to this pin.", 18 SWB (power) "Switch pin of the buck converter", 19 NC "Not connected", 20 VINB (power) "Power input voltage pin for the buck converter.", 21 VINB (power) "Power input voltage pin for the buck converter.", 22 AVIN (power) "Analog input voltage of the device. This is the input for the analog circuits of the device and should be bypassed with a 1-uF ceramic capacitor for good filtering.", 23 GND (power) "Analog ground", 24 REF (out) "Internal reference output typically 1.213 V. A 220-nF capacitor needs to be connected to this pin.", 25 DLY1 (in) "Connecting a capacitor from this pin to GND allows the setting of the delay time between V(LOGIC) (step-down converter output high) to VGL during start-up.", 26 DLY2 (in) "Connecting a capacitor from this pin to GND allows the setting of the delay time between V(LOGIC) (step-down converter output high) to VS boost converter and positive charge-pump VGH during start-up.", 27 GD (hiz) "This is the gate drive pin which can be used to control an external MOSFET switch to provide input to output isolation of VS or VGH. See the circuit diagrams at the end of this data sheet. GD is an open-drain output and is (See Datasheet)", 28 SS (in) "This pin allows setting the soft-start time for the main boost converter VS. Typically a 22-nF capacitor needs to be connected to this pin to set the soft-start time.", 29 EP (power) "The thermally enhanced PowerPAD is connected to PGND."